# Altium schematic symbol library Amplifier_Operational.SchLib: 414 symbols (part 4 of 5)
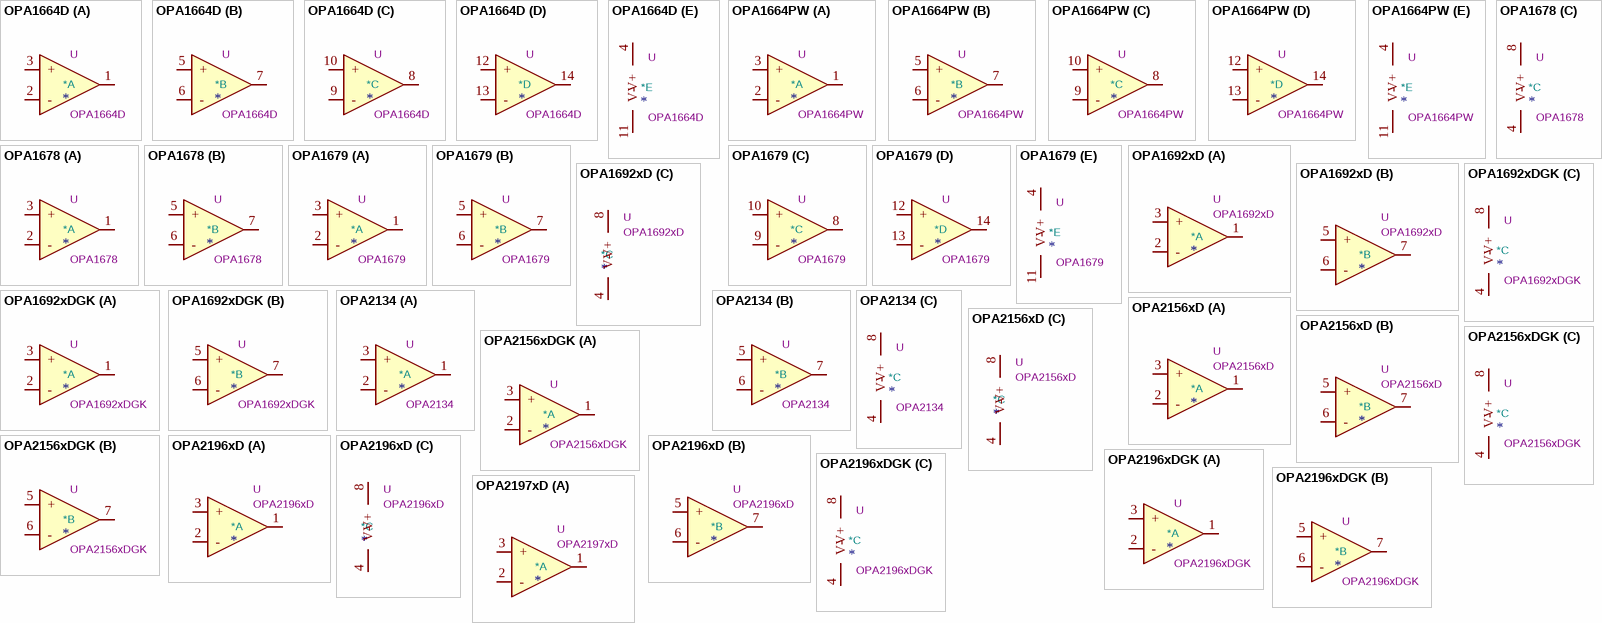
[diagram p26: symbols OPA1664D to OPA2197xD]

## OPA2156xD
designator *  value OPA2156xD  Reference: U
Dual 36V, Ultra Low Noise, Rail-to-Rail Input/Output, Low Offset Voltage, Operational Amplifier, SOIC-8; ki_keywords: dual opamp low-noise r2r; ki_fp_filters: SOIC*3.9x4.9mm*P1.27mm*; Footprint: Package_SO:SOIC-8_3.9x4.9mm_P1.27mm; Datasheet: https://www.ti.com/lit/ds/symlink/opa2156.pdf; Description_: Dual 36V, Ultra Low Noise, Rail-to-Rail Input/Output, Low Offset Voltage, Operational Amplifier, SOIC-8
part A pins: 1, 2 -, 3 +
part B pins: 5 +, 6 -, 7
part C pins: 4 V-, 8 V+

## OPA2156xDGK
designator *  value OPA2156xDGK  Reference: U
Dual 36V, Ultra Low Noise, Rail-to-Rail Input/Output, Low Offset Voltage, Operational Amplifier, VSSOP-8; ki_keywords: dual opamp low-noise r2r; ki_fp_filters: VSSOP*3x3mm*P0.65mm*; Footprint: Package_SO:VSSOP-8_3x3mm_P0.65mm; Datasheet: http://www.ti.com/lit/ds/symlink/opa2156.pdf; Description_: Dual 36V, Ultra Low Noise, Rail-to-Rail Input/Output, Low Offset Voltage, Operational Amplifier, VSSOP-8
part A pins: 1, 2 -, 3 +
part B pins: 5 +, 6 -, 7
part C pins: 4 V-, 8 V+

## OPA2196xD
designator *  value OPA2196xD  Reference: U
Dual, Low-Power, Low Offset Voltage, Rail-to-Rail Operational Amplifier, SOIC-8; ki_keywords: dual opamp low-power; ki_fp_filters: SOIC*3.9x4.9mm*P1.27mm*; Footprint: Package_SO:SOIC-8_3.9x4.9mm_P1.27mm; Datasheet: http://www.ti.com/lit/ds/symlink/opa4196.pdf; Description_: Dual, Low-Power, Low Offset Voltage, Rail-to-Rail Operational Amplifier, SOIC-8
part A pins: 1, 2 -, 3 +
part B pins: 5 +, 6 -, 7
part C pins: 4 V-, 8 V+

## OPA2196xDGK
designator *  value OPA2196xDGK  Reference: U
Dual, Low-Power, Low Offset Voltage, Rail-to-Rail Operational Amplifier, VSSOP-8; ki_keywords: dual opamp rtor; ki_fp_filters: VSSOP*3x3mm*P0.65mm*; Footprint: Package_SO:VSSOP-8_3x3mm_P0.65mm; Datasheet: http://www.ti.com/lit/ds/symlink/opa4196.pdf; Description_: Dual, Low-Power, Low Offset Voltage, Rail-to-Rail Operational Amplifier, VSSOP-8
part A pins: 1, 2 -, 3 +
part B pins: 5 +, 6 -, 7
part C pins: 4 V-, 8 V+

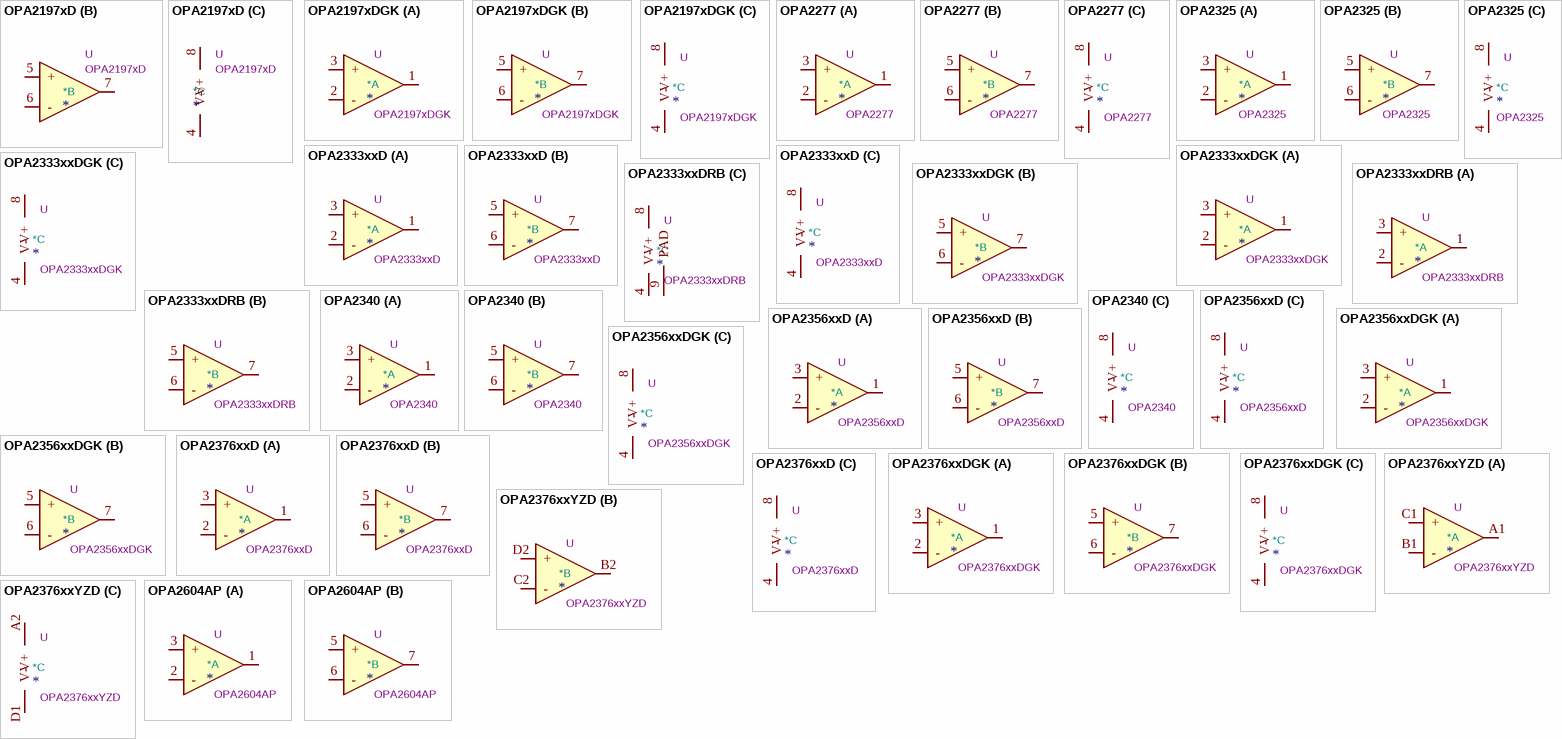
[diagram p16: symbols OPA2197xD to OPA2604AP]

## OPA2197xD
designator *  value OPA2197xD  Reference: U
Dual 36V, Precision, Rail-to-Rail Input/Output, Low Offset Voltage, Operational Amplifier, SOIC-8; ki_keywords: dual opamp rtor; ki_fp_filters: SOIC*3.9x4.9mm*P1.27mm*; Footprint: Package_SO:SOIC-8_3.9x4.9mm_P1.27mm; Datasheet: http://www.ti.com/lit/ds/symlink/opa2197.pdf; Description_: Dual 36V, Precision, Rail-to-Rail Input/Output, Low Offset Voltage, Operational Amplifier, SOIC-8
part A pins: 1, 2 -, 3 +
part B pins: 5 +, 6 -, 7
part C pins: 4 V-, 8 V+

## OPA2197xDGK
designator *  value OPA2197xDGK  Reference: U
Dual 36V, Precision, Rail-to-Rail Input/Output, Low Offset Voltage, Operational Amplifier, VSSOP-8; ki_keywords: dual opamp rtor; ki_fp_filters: VSSOP*3x3mm*P0.65mm*; Footprint: Package_SO:VSSOP-8_3x3mm_P0.65mm; Datasheet: http://www.ti.com/lit/ds/symlink/opa2197.pdf; Description_: Dual 36V, Precision, Rail-to-Rail Input/Output, Low Offset Voltage, Operational Amplifier, VSSOP-8
part A pins: 1, 2 -, 3 +
part B pins: 5 +, 6 -, 7
part C pins: 4 V-, 8 V+

## OPA2277
designator *  value OPA2277  Reference: U
Dual High Precision Operational Amplifiers, DIP-8/SOIC-8; ki_keywords: dual opamp; ki_fp_filters: SOIC*3.9x4.9mm*P1.27mm* DIP*W7.62mm* TO*99* OnSemi*Micro8* TSSOP*3x3mm*P0.65mm* TSSOP*4.4x3mm*P0.65mm* MSOP*3x3mm*P0.65mm* SSOP*3.9x4.9mm*P0.635mm* LFCSP*2x2mm*P0.5mm* *SIP* SOIC*5.3x6.2mm*P1.27mm*; Datasheet: https://www.ti.com/lit/ds/symlink/opa2277.pdf; Description_: Dual High Precision Operational Amplifiers, DIP-8/SOIC-8
part A pins: 1, 2 -, 3 +
part B pins: 5 +, 6 -, 7
part C pins: 4 V-, 8 V+

## OPA2325
designator *  value OPA2325  Reference: U
Precision, 10-MHz, Low-Noise, Low-Power, RRIO, CMOS Operational Amplifier, SOIC-8; ki_keywords: dual opamp; ki_fp_filters: SOIC*3.9x4.9mm*P1.27mm*; Footprint: Package_SO:SOIC-8_3.9x4.9mm_P1.27mm; Datasheet: http://www.ti.com/lit/ds/symlink/opa2325.pdf; Description_: Precision, 10-MHz, Low-Noise, Low-Power, RRIO, CMOS Operational Amplifier, SOIC-8
part A pins: 1, 2 -, 3 +
part B pins: 5 +, 6 -, 7
part C pins: 4 V-, 8 V+

## OPA2333xxD
designator *  value OPA2333xxD  Reference: U
Dual 1.8V, microPower, CMOS Operational Amplifiers, Zero-Drift Series, SOIC-8; ki_keywords: dual opamp; ki_fp_filters: SOIC*3.9x4.9mm*P1.27mm* DIP*W7.62mm* TO*99* OnSemi*Micro8* TSSOP*3x3mm*P0.65mm* TSSOP*4.4x3mm*P0.65mm* MSOP*3x3mm*P0.65mm* SSOP*3.9x4.9mm*P0.635mm* LFCSP*2x2mm*P0.5mm* *SIP* SOIC*5.3x6.2mm*P1.27mm*; Datasheet: http://www.ti.com/lit/ds/symlink/opa333.pdf; Description_: Dual 1.8V, microPower, CMOS Operational Amplifiers, Zero-Drift Series, SOIC-8
part A pins: 1, 2 -, 3 +
part B pins: 5 +, 6 -, 7
part C pins: 4 V-, 8 V+

## OPA2333xxDGK
designator *  value OPA2333xxDGK  Reference: U
Dual 1.8V, microPower, CMOS Operational Amplifiers, Zero-Drift Series, VSSOP-8; ki_keywords: dual opamp; ki_fp_filters: SOIC*3.9x4.9mm*P1.27mm* DIP*W7.62mm* TO*99* OnSemi*Micro8* TSSOP*3x3mm*P0.65mm* TSSOP*4.4x3mm*P0.65mm* MSOP*3x3mm*P0.65mm* SSOP*3.9x4.9mm*P0.635mm* LFCSP*2x2mm*P0.5mm* *SIP* SOIC*5.3x6.2mm*P1.27mm*; Datasheet: http://www.ti.com/lit/ds/symlink/opa333.pdf; Description_: Dual 1.8V, microPower, CMOS Operational Amplifiers, Zero-Drift Series, VSSOP-8
part A pins: 1, 2 -, 3 +
part B pins: 5 +, 6 -, 7
part C pins: 4 V-, 8 V+

## OPA2333xxDRB
designator *  value OPA2333xxDRB  Reference: U
Dual 1.8V, microPower, CMOS Operational Amplifiers, Zero-Drift Series, SON-8; ki_keywords: dual opamp; ki_fp_filters: Texas*PVSON*; Footprint: Package_SON:Texas_S-PVSON-N8; Datasheet: http://www.ti.com/lit/ds/symlink/opa333.pdf; Description_: Dual 1.8V, microPower, CMOS Operational Amplifiers, Zero-Drift Series, SON-8
part A pins: 1, 2 -, 3 +
part B pins: 5 +, 6 -, 7
part C pins: 4 V-, 8 V+, 9 PAD

## OPA2340
designator *  value OPA2340  Reference: U
Dual Single-Supply, Rail-to-Rail Operational Amplifiers, MicroAmplifier Series, DIP-8/SOIC-8/SSOP-8; ki_keywords: dual opamp; ki_fp_filters: SOIC*3.9x4.9mm*P1.27mm* DIP*W7.62mm* TO*99* OnSemi*Micro8* TSSOP*3x3mm*P0.65mm* TSSOP*4.4x3mm*P0.65mm* MSOP*3x3mm*P0.65mm* SSOP*3.9x4.9mm*P0.635mm* LFCSP*2x2mm*P0.5mm* *SIP* SOIC*5.3x6.2mm*P1.27mm*; Datasheet: http://www.ti.com/lit/ds/symlink/opa4340.pdf; Description_: Dual Single-Supply, Rail-to-Rail Operational Amplifiers, MicroAmplifier Series, DIP-8/SOIC-8/SSOP-8
part A pins: 1, 2 -, 3 +
part B pins: 5 +, 6 -, 7
part C pins: 4 V-, 8 V+

## OPA2356xxD
designator *  value OPA2356xxD  Reference: U
Dual High Speed CMOS Operational Amplifiers, SOIC-8; ki_keywords: dual opamp; ki_fp_filters: SOIC*3.9x4.9mm*P1.27mm* DIP*W7.62mm* TO*99* OnSemi*Micro8* TSSOP*3x3mm*P0.65mm* TSSOP*4.4x3mm*P0.65mm* MSOP*3x3mm*P0.65mm* SSOP*3.9x4.9mm*P0.635mm* LFCSP*2x2mm*P0.5mm* *SIP* SOIC*5.3x6.2mm*P1.27mm*; Datasheet: http://www.ti.com/lit/ds/symlink/opa2356.pdf; Description_: Dual High Speed CMOS Operational Amplifiers, SOIC-8
part A pins: 1, 2 -, 3 +
part B pins: 5 +, 6 -, 7
part C pins: 4 V-, 8 V+

## OPA2356xxDGK
designator *  value OPA2356xxDGK  Reference: U
Dual High Speed CMOS Operational Amplifiers, VSSOP-8; ki_keywords: dual opamp; ki_fp_filters: SOIC*3.9x4.9mm*P1.27mm* DIP*W7.62mm* TO*99* OnSemi*Micro8* TSSOP*3x3mm*P0.65mm* TSSOP*4.4x3mm*P0.65mm* MSOP*3x3mm*P0.65mm* SSOP*3.9x4.9mm*P0.635mm* LFCSP*2x2mm*P0.5mm* *SIP* SOIC*5.3x6.2mm*P1.27mm*; Datasheet: http://www.ti.com/lit/ds/symlink/opa2356.pdf; Description_: Dual High Speed CMOS Operational Amplifiers, VSSOP-8
part A pins: 1, 2 -, 3 +
part B pins: 5 +, 6 -, 7
part C pins: 4 V-, 8 V+

## OPA2376xxD
designator *  value OPA2376xxD  Reference: U
Dual Low-Noise, Low Quiescent Current, Precision Operational Amplifier e-trim Series, SOIC-8; ki_keywords: dual opamp; ki_fp_filters: SOIC*3.9x4.9mm*P1.27mm* DIP*W7.62mm* TO*99* OnSemi*Micro8* TSSOP*3x3mm*P0.65mm* TSSOP*4.4x3mm*P0.65mm* MSOP*3x3mm*P0.65mm* SSOP*3.9x4.9mm*P0.635mm* LFCSP*2x2mm*P0.5mm* *SIP* SOIC*5.3x6.2mm*P1.27mm*; Datasheet: http://www.ti.com/lit/ds/symlink/opa376.pdf; Description_: Dual Low-Noise, Low Quiescent Current, Precision Operational Amplifier e-trim Series, SOIC-8
part A pins: 1, 2 -, 3 +
part B pins: 5 +, 6 -, 7
part C pins: 4 V-, 8 V+

## OPA2376xxDGK
designator *  value OPA2376xxDGK  Reference: U
Dual Low-Noise, Low Quiescent Current, Precision Operational Amplifier e-trim Series, VSSOP-8; ki_keywords: dual opamp; ki_fp_filters: SOIC*3.9x4.9mm*P1.27mm* DIP*W7.62mm* TO*99* OnSemi*Micro8* TSSOP*3x3mm*P0.65mm* TSSOP*4.4x3mm*P0.65mm* MSOP*3x3mm*P0.65mm* SSOP*3.9x4.9mm*P0.635mm* LFCSP*2x2mm*P0.5mm* *SIP* SOIC*5.3x6.2mm*P1.27mm*; Datasheet: http://www.ti.com/lit/ds/symlink/opa376.pdf; Description_: Dual Low-Noise, Low Quiescent Current, Precision Operational Amplifier e-trim Series, VSSOP-8
part A pins: 1, 2 -, 3 +
part B pins: 5 +, 6 -, 7
part C pins: 4 V-, 8 V+

## OPA2376xxYZD
designator *  value OPA2376xxYZD  Reference: U
Dual Low-Noise, Low Quiescent Current, Precision Operational Amplifier e-trim Series, DSBGA-8; ki_keywords: dual opamp; ki_fp_filters: Texas*DSBGA*0.9x1.9mm*0.5mm*; Footprint: Package_BGA:Texas_DSBGA-8_0.9x1.9mm_Layout2x4_P0.5mm; Datasheet: http://www.ti.com/lit/ds/symlink/opa376.pdf; Description_: Dual Low-Noise, Low Quiescent Current, Precision Operational Amplifier e-trim Series, DSBGA-8
part A pins: A1, B1 -, C1 +
part B pins: B2, C2 -, D2 +
part C pins: A2 V+, D1 V-

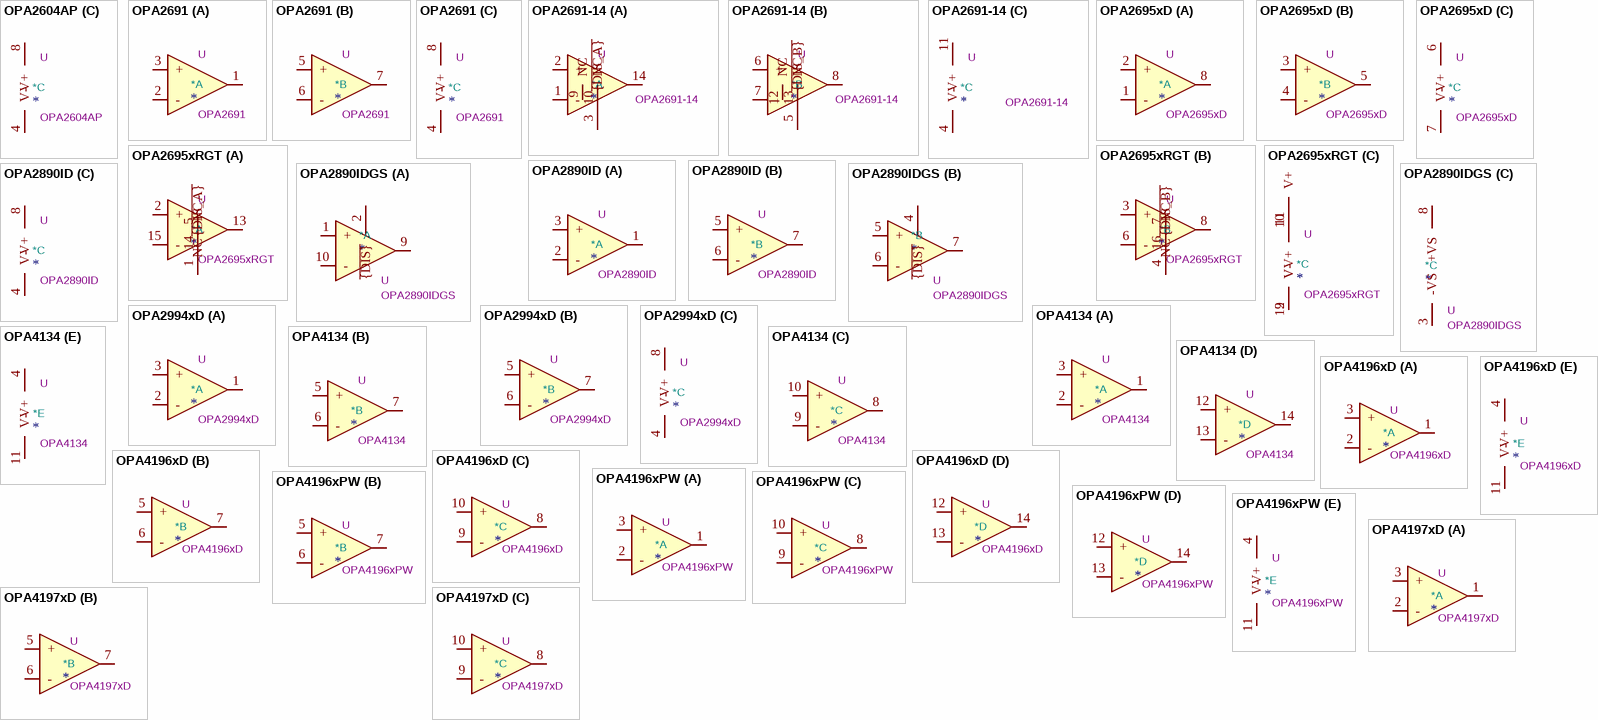
[diagram p17: symbols OPA2604AP to OPA4197xD]

## OPA2604AP
designator *  value OPA2604AP  Reference: U
Dual FET-Input, Low-Distortion Operational Amplifier, DIP-8; ki_keywords: dual opamp fet-input; ki_fp_filters: DIP*8*W7.62mm*; Footprint: Package_DIP:DIP-8_W7.62mm; Datasheet: https://pdf1.alldatasheetcn.com/datasheet-pdf/view/785955/TI1/OPA2604AP.html; Description_: Dual FET-Input, Low-Distortion Operational Amplifier, DIP-8
part A pins: 1, 2 -, 3 +
part B pins: 5 +, 6 -, 7
part C pins: 4 V-, 8 V+

## OPA2691
designator *  value OPA2691  Reference: U
Dual Wideband, Current-Feedback Operational Amplifier, SOIC-8; ki_keywords: dual current feedback opamp; ki_fp_filters: SOIC*3.9x4.9mm*P1.27mm* DIP*W7.62mm* TO*99* OnSemi*Micro8* TSSOP*3x3mm*P0.65mm* TSSOP*4.4x3mm*P0.65mm* MSOP*3x3mm*P0.65mm* SSOP*3.9x4.9mm*P0.635mm* LFCSP*2x2mm*P0.5mm* *SIP* SOIC*5.3x6.2mm*P1.27mm*; Datasheet: http://www.ti.com/lit/ds/sbos224d/sbos224d.pdf; Description_: Dual Wideband, Current-Feedback Operational Amplifier, SOIC-8
part A pins: 1, 2 -, 3 +
part B pins: 5 +, 6 -, 7
part C pins: 4 V-, 8 V+

## OPA2691-14
designator *  value OPA2691-14  Reference: U
Dual Wideband, Current-Feedback Operational Amplifier With Disable, SOIC-14; ki_keywords: dual current feedback opamp; ki_fp_filters: SOIC*3.9x8.7mm*P1.27mm*; Footprint: Package_SO:SOIC-14_3.9x8.7mm_P1.27mm; Datasheet: http://www.ti.com/lit/ds/sbos224d/sbos224d.pdf; Description_: Dual Wideband, Current-Feedback Operational Amplifier With Disable, SOIC-14
part A pins: 1 -, 2 +, 3 ~{{DIS_A}}, 9 NC, 10 NC, 14
part B pins: 5 ~{{DIS_B}}, 6 +, 7 -, 8, 12 NC, 13 NC
part C pins: 4 V-, 11 V+

## OPA2695xD
designator *  value OPA2695xD  Reference: U
Dual, Ultra-Wideband, Current-Feedback Operational Amplifier with Disable, SOIC-8; ki_keywords: dual opamp; ki_fp_filters: SOIC*3.9x4.9mm*P1.27mm*; Footprint: Package_SO:SOIC-8_3.9x4.9mm_P1.27mm; Datasheet: http://www.ti.com/lit/ds/sbos354a/sbos354a.pdf; Description_: Dual, Ultra-Wideband, Current-Feedback Operational Amplifier with Disable, SOIC-8
part A pins: 1 -, 2 +, 8
part B pins: 3 +, 4 -, 5
part C pins: 6 V+, 7 V-

## OPA2695xRGT
designator *  value OPA2695xRGT  Reference: U
Dual, Ultra-Wideband, Current-Feedback Operational Amplifier with Disable, QFN-16; ki_keywords: dual opamp; ki_fp_filters: VQFN*1EP*3x3mm*P0.5mm*; Footprint: Package_DFN_QFN:VQFN-16-1EP_3x3mm_P0.5mm_EP1.45x1.45mm_ThermalVias; Datasheet: http://www.ti.com/lit/ds/sbos354a/sbos354a.pdf; Description_: Dual, Ultra-Wideband, Current-Feedback Operational Amplifier with Disable, QFN-16
part A pins: 1 ~{{DIS_A}}, 2 +, 5 NC, 13, 14 NC, 15 -
part B pins: 3 +, 4 ~{{DIS_B}}, 6 -, 7 NC, 8, 16 NC
part C pins: 9 V-, 10 V+, 11 V+, 12 V-

## OPA2890ID
designator *  value OPA2890ID  Reference: U
Low-Power, Wideband, Voltage-Feedback Operational Amplifier, SO-8; ki_keywords: dual opamp; ki_fp_filters: *SO*3.9x4.9mm*P1.27mm*; Footprint: Package_SO:SO-8_3.9x4.9mm_P1.27mm; Datasheet: https://www.ti.com/lit/ds/symlink/opa2890.pdf; Description_: Low-Power, Wideband, Voltage-Feedback Operational Amplifier, SO-8
part A pins: 1, 2 -, 3 +
part B pins: 5 +, 6 -, 7
part C pins: 4 V-, 8 V+

## OPA2890IDGS
designator *  value OPA2890IDGS  Reference: U
Low-Power, Wideband, Voltage-Feedback Operational Amplifier with Disable, VSSOP-10; ki_keywords: dual opamp; ki_fp_filters: *VSSOP*3x3mm*P0.5mm*; Footprint: Package_SO:VSSOP-10_3x3mm_P0.5mm; Datasheet: https://www.ti.com/lit/ds/symlink/opa2890.pdf; Description_: Low-Power, Wideband, Voltage-Feedback Operational Amplifier with Disable, VSSOP-10
part A pins: 1 +, 2 ~{{DIS}}, 9, 10 -
part B pins: 4 ~{{DIS}}, 5 +, 6 -, 7
part C pins: 3 -VS, 8 +VS

## OPA2994xD
designator *  value OPA2994xD  Reference: U
Dual Opamp, Rail-to-Rail Input/Output, Unlimited Capacitive Load Drive, 125mA Output Current, 2-32V, 350uV offset, 24MHz GBW, SOIC-8; ki_keywords: high-output-current rrio; ki_fp_filters: SOIC*3.9x4.9mm*P1.27mm*; Footprint: Package_SO:SOIC-8_3.9x4.9mm_P1.27mm; Datasheet: https://www.ti.com/lit/ds/symlink/opa2994.pdf; Description_: Dual Opamp, Rail-to-Rail Input/Output, Unlimited Capacitive Load Drive, 125mA Output Current, 2-32V, 350uV offset, 24MHz GBW, SOIC-8
part A pins: 1, 2 -, 3 +
part B pins: 5 +, 6 -, 7
part C pins: 4 V-, 8 V+

## OPA4134
designator *  value OPA4134  Reference: U
Quad SoundPlus High Performance Audio Operational Amplifiers, SOIC-14; ki_keywords: quad opamp; ki_fp_filters: SOIC*3.9x8.7mm*P1.27mm* DIP*W7.62mm* TSSOP*4.4x5mm*P0.65mm* SSOP*5.3x6.2mm*P0.65mm* MSOP*3x3mm*P0.5mm*; Datasheet: http://www.ti.com/lit/ds/symlink/opa134.pdf; Description_: Quad SoundPlus High Performance Audio Operational Amplifiers, SOIC-14
part A pins: 1, 2 -, 3 +
part B pins: 5 +, 6 -, 7
part C pins: 8, 9 -, 10 +
part D pins: 12 +, 13 -, 14
part E pins: 4 V+, 11 V-

## OPA4196xD
designator *  value OPA4196xD  Reference: U
Quad, Low-Power, Low Offset Voltage, Rail-to-Rail Operational Amplifier, SOIC-14; ki_keywords: quad opamp rtor; ki_fp_filters: SOIC*3.9x8.7mm*P1.27mm*; Footprint: Package_SO:SOIC-14_3.9x8.7mm_P1.27mm; Datasheet: http://www.ti.com/lit/ds/symlink/opa4196.pdf; Description_: Quad, Low-Power, Low Offset Voltage, Rail-to-Rail Operational Amplifier, SOIC-14
part A pins: 1, 2 -, 3 +
part B pins: 5 +, 6 -, 7
part C pins: 8, 9 -, 10 +
part D pins: 12 +, 13 -, 14
part E pins: 4 V+, 11 V-

## OPA4196xPW
designator *  value OPA4196xPW  Reference: U
Quad, Low-Power, Low Offset Voltage, Rail-to-Rail Operational Amplifier, TSSOP-14; ki_keywords: quad opamp rtor; ki_fp_filters: TSSOP*4.4x5mm*P0.65mm*; Footprint: Package_SO:TSSOP-14_4.4x5mm_P0.65mm; Datasheet: http://www.ti.com/lit/ds/symlink/opa4196.pdf; Description_: Quad, Low-Power, Low Offset Voltage, Rail-to-Rail Operational Amplifier, TSSOP-14
part A pins: 1, 2 -, 3 +
part B pins: 5 +, 6 -, 7
part C pins: 8, 9 -, 10 +
part D pins: 12 +, 13 -, 14
part E pins: 4 V+, 11 V-

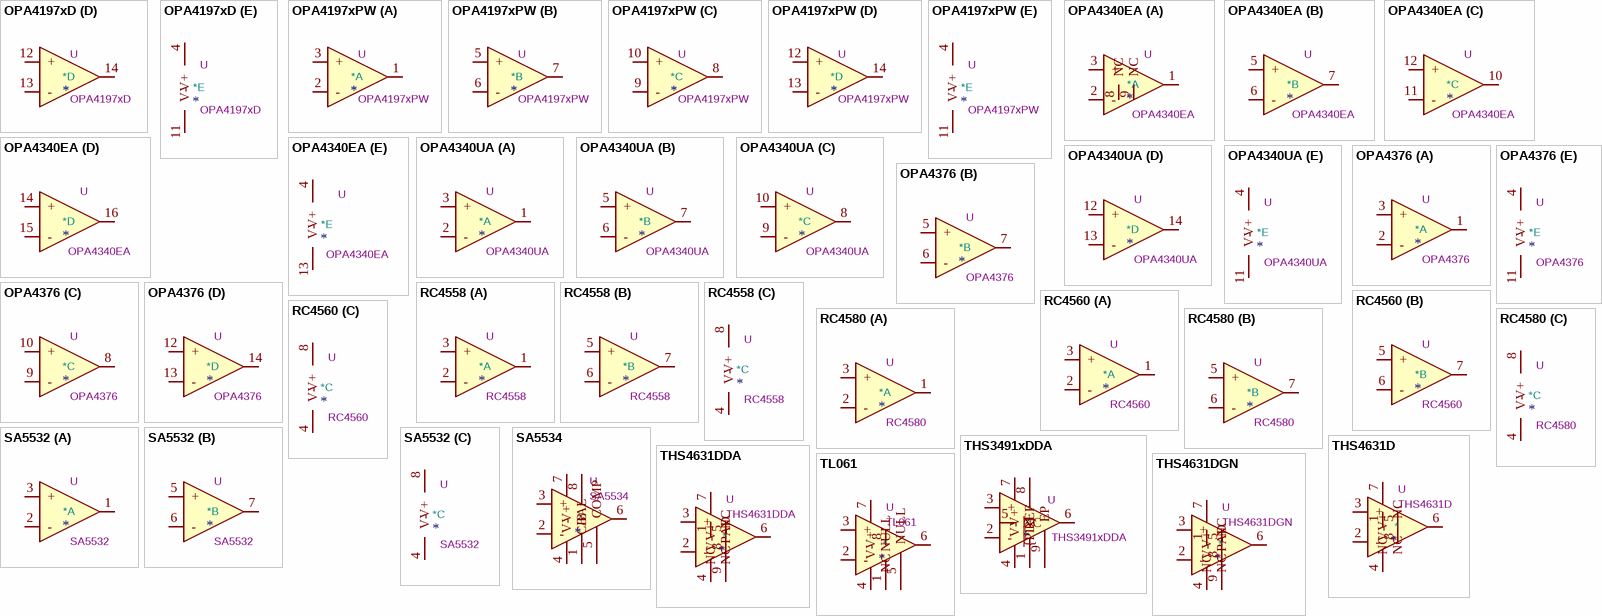
[diagram p18: symbols OPA4197xD to TL061]

## OPA4197xD
designator *  value OPA4197xD  Reference: U
Quad 36V, Precision, Rail-to-Rail Input/Output, Low Offset Voltage, Operational Amplifier, SOIC-14; ki_keywords: quad opamp rtor; ki_fp_filters: SOIC*3.9x8.7mm*P1.27mm*; Footprint: Package_SO:SOIC-14_3.9x8.7mm_P1.27mm; Datasheet: http://www.ti.com/lit/ds/symlink/opa4197.pdf; Description_: Quad 36V, Precision, Rail-to-Rail Input/Output, Low Offset Voltage, Operational Amplifier, SOIC-14
part A pins: 1, 2 -, 3 +
part B pins: 5 +, 6 -, 7
part C pins: 8, 9 -, 10 +
part D pins: 12 +, 13 -, 14
part E pins: 4 V+, 11 V-

## OPA4197xPW
designator *  value OPA4197xPW  Reference: U
Quad 36V, Precision, Rail-to-Rail Input/Output, Low Offset Voltage, Operational Amplifier, TSSOP-14; ki_keywords: quad opamp rtor; ki_fp_filters: TSSOP*4.4x5mm*P0.65mm*; Footprint: Package_SO:TSSOP-14_4.4x5mm_P0.65mm; Datasheet: http://www.ti.com/lit/ds/symlink/opa4197.pdf; Description_: Quad 36V, Precision, Rail-to-Rail Input/Output, Low Offset Voltage, Operational Amplifier, TSSOP-14
part A pins: 1, 2 -, 3 +
part B pins: 5 +, 6 -, 7
part C pins: 8, 9 -, 10 +
part D pins: 12 +, 13 -, 14
part E pins: 4 V+, 11 V-

## OPA4340EA
designator *  value OPA4340EA  Reference: U
Quad Single-Supply, Rail-to-Rail Operational Amplifier, MicroAmplifier Series, SSOP-16; ki_keywords: quad opamp; ki_fp_filters: SSOP*3.9x4.9mm*P0.635mm* SOIC*3.9x9.9mm*P1.27mm* QSOP*3.9x4.9mm*P0.635mm*; Datasheet: http://www.ti.com/lit/ds/symlink/opa340.pdf; Description_: Quad Single-Supply, Rail-to-Rail Operational Amplifier, MicroAmplifier Series, SSOP-16
part A pins: 1, 2 -, 3 +, 8 NC, 9 NC
part B pins: 5 +, 6 -, 7
part C pins: 10, 11 -, 12 +
part D pins: 14 +, 15 -, 16
part E pins: 4 V+, 13 V-

## OPA4340UA
designator *  value OPA4340UA  Reference: U
Quad Single-Supply, Rail-to-Rail Operational Amplifier, MicroAmplifier Series, SOIC-14; ki_keywords: quad opamp; ki_fp_filters: SOIC*3.9x8.7mm*P1.27mm* DIP*W7.62mm* TSSOP*4.4x5mm*P0.65mm* SSOP*5.3x6.2mm*P0.65mm* MSOP*3x3mm*P0.5mm*; Datasheet: http://www.ti.com/lit/ds/symlink/opa340.pdf; Description_: Quad Single-Supply, Rail-to-Rail Operational Amplifier, MicroAmplifier Series, SOIC-14
part A pins: 1, 2 -, 3 +
part B pins: 5 +, 6 -, 7
part C pins: 8, 9 -, 10 +
part D pins: 12 +, 13 -, 14
part E pins: 4 V+, 11 V-

## OPA4376
designator *  value OPA4376  Reference: U
Quad Low-Noise, Low Quiescent Current, Precision Operational Amplifier e-trim Series, SC-70-5; ki_keywords: quad opamp; ki_fp_filters: SOIC*3.9x8.7mm*P1.27mm* DIP*W7.62mm* TSSOP*4.4x5mm*P0.65mm* SSOP*5.3x6.2mm*P0.65mm* MSOP*3x3mm*P0.5mm*; Datasheet: http://www.ti.com/lit/ds/symlink/opa376.pdf; Description_: Quad Low-Noise, Low Quiescent Current, Precision Operational Amplifier e-trim Series, SC-70-5
part A pins: 1, 2 -, 3 +
part B pins: 5 +, 6 -, 7
part C pins: 8, 9 -, 10 +
part D pins: 12 +, 13 -, 14
part E pins: 4 V+, 11 V-

## RC4558
designator *  value RC4558  Reference: U
Dual General Purpose, Operational Amplifier, DIP-8/SOIC-8/SSOP-8; ki_keywords: dual opamp; ki_fp_filters: SOIC*3.9x4.9mm*P1.27mm* DIP*W7.62mm* TO*99* OnSemi*Micro8* TSSOP*3x3mm*P0.65mm* TSSOP*4.4x3mm*P0.65mm* MSOP*3x3mm*P0.65mm* SSOP*3.9x4.9mm*P0.635mm* LFCSP*2x2mm*P0.5mm* *SIP* SOIC*5.3x6.2mm*P1.27mm*; Datasheet: http://www.ti.com/lit/ds/symlink/rc4558.pdf; Description_: Dual General Purpose, Operational Amplifier, DIP-8/SOIC-8/SSOP-8
part A pins: 1, 2 -, 3 +
part B pins: 5 +, 6 -, 7
part C pins: 4 V-, 8 V+

## RC4560
designator *  value RC4560  Reference: U
Dual Audio Operational Amplifier, DIP-8/SOIC-8/SSOP-8; ki_keywords: dual opamp; ki_fp_filters: SOIC*3.9x4.9mm*P1.27mm* DIP*W7.62mm* TO*99* OnSemi*Micro8* TSSOP*3x3mm*P0.65mm* TSSOP*4.4x3mm*P0.65mm* MSOP*3x3mm*P0.65mm* SSOP*3.9x4.9mm*P0.635mm* LFCSP*2x2mm*P0.5mm* *SIP* SOIC*5.3x6.2mm*P1.27mm*; Datasheet: http://www.ti.com/lit/ds/symlink/rc4560.pdf; Description_: Dual Audio Operational Amplifier, DIP-8/SOIC-8/SSOP-8
part A pins: 1, 2 -, 3 +
part B pins: 5 +, 6 -, 7
part C pins: 4 V-, 8 V+

## RC4580
designator *  value RC4580  Reference: U
Dual Audio Operational Amplifier, SOIC-8/SSOP-8; ki_keywords: dual opamp; ki_fp_filters: SOIC*3.9x4.9mm*P1.27mm* DIP*W7.62mm* TO*99* OnSemi*Micro8* TSSOP*3x3mm*P0.65mm* TSSOP*4.4x3mm*P0.65mm* MSOP*3x3mm*P0.65mm* SSOP*3.9x4.9mm*P0.635mm* LFCSP*2x2mm*P0.5mm* *SIP* SOIC*5.3x6.2mm*P1.27mm*; Datasheet: http://www.ti.com/lit/ds/symlink/rc4580.pdf; Description_: Dual Audio Operational Amplifier, SOIC-8/SSOP-8
part A pins: 1, 2 -, 3 +
part B pins: 5 +, 6 -, 7
part C pins: 4 V-, 8 V+

## SA5532
designator *  value SA5532  Reference: U
Dual Low-Noise Operational Amplifiers, DIP-8/SOIC-8; ki_keywords: dual opamp; ki_fp_filters: SOIC*3.9x4.9mm*P1.27mm* DIP*W7.62mm* TO*99* OnSemi*Micro8* TSSOP*3x3mm*P0.65mm* TSSOP*4.4x3mm*P0.65mm* MSOP*3x3mm*P0.65mm* SSOP*3.9x4.9mm*P0.635mm* LFCSP*2x2mm*P0.5mm* *SIP* SOIC*5.3x6.2mm*P1.27mm*; Datasheet: http://www.ti.com/lit/ds/symlink/ne5532.pdf; Description_: Dual Low-Noise Operational Amplifiers, DIP-8/SOIC-8
part A pins: 1, 2 -, 3 +
part B pins: 5 +, 6 -, 7
part C pins: 4 V-, 8 V+

## SA5534
designator *  value SA5534  Reference: U
Single Low-Noise Operational Amplifiers, DIP-8/SOIC-8; ki_keywords: single opamp; ki_fp_filters: DIP*W7.62mm* SOIC*3.9x4.9mm*P1.27mm* TO?5*; Datasheet: http://www.ti.com/lit/ds/symlink/ne5534.pdf; Description_: Single Low-Noise Operational Amplifiers, DIP-8/SOIC-8
pins: 1 BAL, 2 -, 3 +, 4 V-, 5 COMP, 6, 7 V+, 8 C/B

## THS3491xDDA
designator *  value THS3491xDDA  Reference: U
900-MHz, 500-mA High-Power Output Current Feedback Operational Amplifier, SOIC-8; ki_keywords: opamp single current feedback wideband; ki_fp_filters: Texas*R*PDSO*G8*EP*; Footprint: Package_SO:Texas_R-PDSO-G8_EP2.95x4.9mm_Mask2.4x3.1mm; Datasheet: http://www.ti.com/lit/ds/symlink/ths3491.pdf; Description_: 900-MHz, 500-mA High-Power Output Current Feedback Operational Amplifier, SOIC-8
pins: 1 REF, 2 -, 3 +, 4 V-, 5 NC, 6, 7 V+, 8 ~{{PD}}, 9 EP

## THS4631D
designator *  value THS4631D  Reference: U
Single High-voltage, High Slew Rate, Wideband, FET-input Operational Amplifier, SOIC-8; ki_keywords: single opamp; ki_fp_filters: SOIC*3.9x4.9mm*P1.27mm*; Footprint: Package_SO:SOIC-8_3.9x4.9mm_P1.27mm; Datasheet: www.ti.com/lit/ds/symlink/ths4631.pdf; Description_: Single High-voltage, High Slew Rate, Wideband, FET-input Operational Amplifier, SOIC-8
pins: 1 NC, 2 -, 3 +, 4 V-, 5 NC, 6, 7 V+, 8 NC

## THS4631DDA
designator *  value THS4631DDA  Reference: U
Single High-voltage, High Slew Rate, Wideband, FET-input Operational Amplifier, SOIC-8; ki_keywords: single opamp; ki_fp_filters: SOIC*1EP*3.9x4.9mm*P1.27mm* MSOP*1EP*3x3mm*P0.65mm*; Datasheet: www.ti.com/lit/ds/symlink/ths4631.pdf; Description_: Single High-voltage, High Slew Rate, Wideband, FET-input Operational Amplifier, SOIC-8
pins: 1 NC, 2 -, 3 +, 4 V-, 5 NC, 6, 7 V+, 8 NC, 9 PAD

## THS4631DGN
designator *  value THS4631DGN  Reference: U
Single High-voltage, High Slew Rate, Wideband, FET-input Operational Amplifier, MSOP-8; ki_keywords: single opamp; ki_fp_filters: SOIC*1EP*3.9x4.9mm*P1.27mm* MSOP*1EP*3x3mm*P0.65mm*; Datasheet: www.ti.com/lit/ds/symlink/ths4631.pdf; Description_: Single High-voltage, High Slew Rate, Wideband, FET-input Operational Amplifier, MSOP-8
pins: 1 NC, 2 -, 3 +, 4 V-, 5 NC, 6, 7 V+, 8 NC, 9 PAD

## TL061
designator *  value TL061  Reference: U
Single Low-Power JFET-Input Operational Amplifiers, DIP-8/SOIC-8; ki_keywords: single opamp; ki_fp_filters: SOIC*3.9x4.9mm*P1.27mm* DIP*W7.62mm* TSSOP*3x3mm*P0.65mm*; Datasheet: http://www.ti.com/lit/ds/symlink/tl061.pdf; Description_: Single Low-Power JFET-Input Operational Amplifiers, DIP-8/SOIC-8
pins: 1 NULL, 2 -, 3 +, 4 V-, 5 NULL, 6, 7 V+, 8 NC

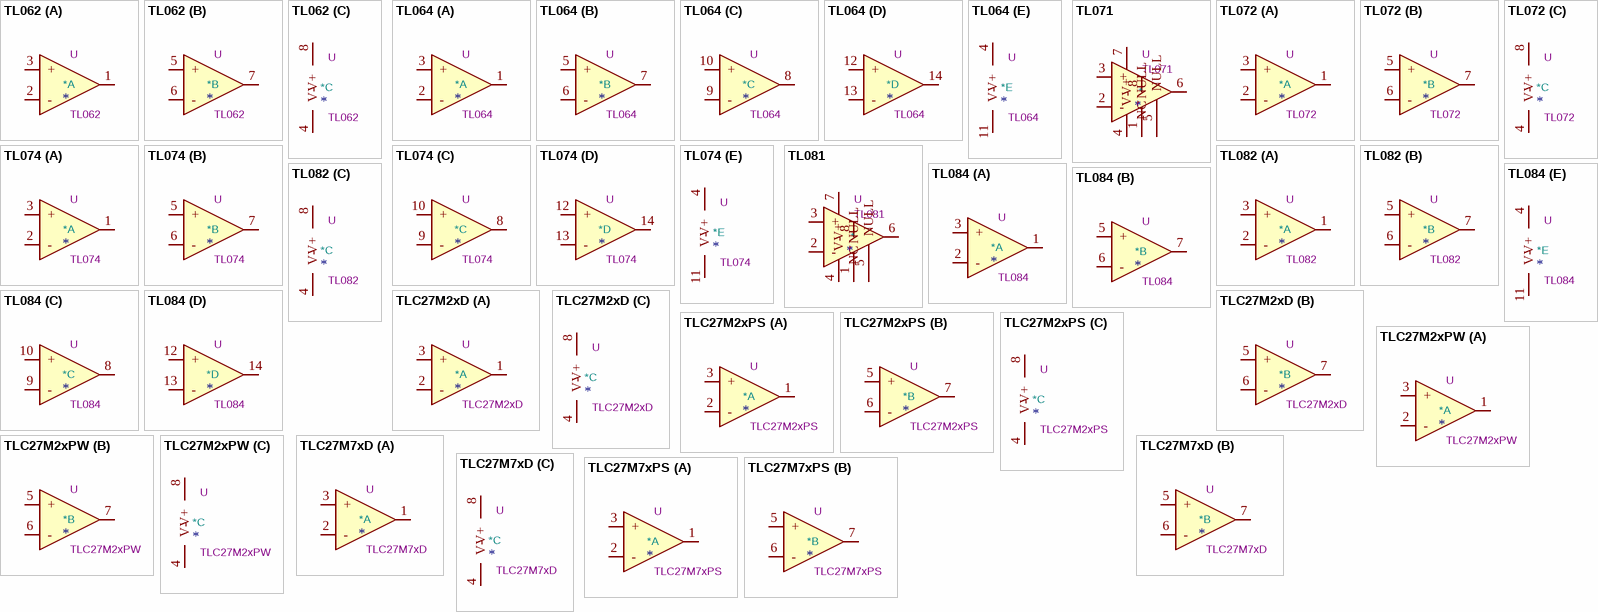
[diagram p19: symbols TL062 to TLC27M7xPS]

## TL062
designator *  value TL062  Reference: U
Dual Low-Power JFET-Input Operational Amplifiers, DIP-8/SOIC-8/SSOP-8; ki_keywords: dual opamp; ki_fp_filters: SOIC*3.9x4.9mm*P1.27mm* DIP*W7.62mm* TO*99* OnSemi*Micro8* TSSOP*3x3mm*P0.65mm* TSSOP*4.4x3mm*P0.65mm* MSOP*3x3mm*P0.65mm* SSOP*3.9x4.9mm*P0.635mm* LFCSP*2x2mm*P0.5mm* *SIP* SOIC*5.3x6.2mm*P1.27mm*; Datasheet: http://www.ti.com/lit/ds/symlink/tl061.pdf; Description_: Dual Low-Power JFET-Input Operational Amplifiers, DIP-8/SOIC-8/SSOP-8
part A pins: 1, 2 -, 3 +
part B pins: 5 +, 6 -, 7
part C pins: 4 V-, 8 V+

## TL064
designator *  value TL064  Reference: U
Quad Low-Power JFET-Input Operational Amplifiers, DIP-14/SOIC-14/SSOP-14; ki_keywords: quad opamp; ki_fp_filters: SOIC*3.9x8.7mm*P1.27mm* DIP*W7.62mm* TSSOP*4.4x5mm*P0.65mm* SSOP*5.3x6.2mm*P0.65mm* MSOP*3x3mm*P0.5mm*; Datasheet: http://www.ti.com/lit/ds/symlink/tl061.pdf; Description_: Quad Low-Power JFET-Input Operational Amplifiers, DIP-14/SOIC-14/SSOP-14
part A pins: 1, 2 -, 3 +
part B pins: 5 +, 6 -, 7
part C pins: 8, 9 -, 10 +
part D pins: 12 +, 13 -, 14
part E pins: 4 V+, 11 V-

## TL071
designator *  value TL071  Reference: U
Single Low-Noise JFET-Input Operational Amplifiers, DIP-8/SOIC-8; ki_keywords: singel opamp; ki_fp_filters: SOIC*3.9x4.9mm*P1.27mm* DIP*W7.62mm* TSSOP*3x3mm*P0.65mm*; Datasheet: http://www.ti.com/lit/ds/symlink/tl071.pdf; Description_: Single Low-Noise JFET-Input Operational Amplifiers, DIP-8/SOIC-8
pins: 1 NULL, 2 -, 3 +, 4 V-, 5 NULL, 6, 7 V+, 8 NC

## TL072
designator *  value TL072  Reference: U
Dual Low-Noise JFET-Input Operational Amplifiers, DIP-8/SOIC-8; ki_keywords: dual opamp; ki_fp_filters: SOIC*3.9x4.9mm*P1.27mm* DIP*W7.62mm* TO*99* OnSemi*Micro8* TSSOP*3x3mm*P0.65mm* TSSOP*4.4x3mm*P0.65mm* MSOP*3x3mm*P0.65mm* SSOP*3.9x4.9mm*P0.635mm* LFCSP*2x2mm*P0.5mm* *SIP* SOIC*5.3x6.2mm*P1.27mm*; Datasheet: http://www.ti.com/lit/ds/symlink/tl071.pdf; Description_: Dual Low-Noise JFET-Input Operational Amplifiers, DIP-8/SOIC-8
part A pins: 1, 2 -, 3 +
part B pins: 5 +, 6 -, 7
part C pins: 4 V-, 8 V+

## TL074
designator *  value TL074  Reference: U
Quad Low-Noise JFET-Input Operational Amplifiers, DIP-14/SOIC-14; ki_keywords: quad opamp; ki_fp_filters: SOIC*3.9x8.7mm*P1.27mm* DIP*W7.62mm* TSSOP*4.4x5mm*P0.65mm* SSOP*5.3x6.2mm*P0.65mm* MSOP*3x3mm*P0.5mm*; Datasheet: http://www.ti.com/lit/ds/symlink/tl071.pdf; Description_: Quad Low-Noise JFET-Input Operational Amplifiers, DIP-14/SOIC-14
part A pins: 1, 2 -, 3 +
part B pins: 5 +, 6 -, 7
part C pins: 8, 9 -, 10 +
part D pins: 12 +, 13 -, 14
part E pins: 4 V+, 11 V-

## TL081
designator *  value TL081  Reference: U
Single JFET-Input Operational Amplifiers, DIP-8/SOIC-8; ki_keywords: single opamp; ki_fp_filters: SOIC*3.9x4.9mm*P1.27mm* DIP*W7.62mm* TSSOP*3x3mm*P0.65mm*; Datasheet: http://www.ti.com/lit/ds/symlink/tl081.pdf; Description_: Single JFET-Input Operational Amplifiers, DIP-8/SOIC-8
pins: 1 NULL, 2 -, 3 +, 4 V-, 5 NULL, 6, 7 V+, 8 NC

## TL082
designator *  value TL082  Reference: U
Dual JFET-Input Operational Amplifiers, DIP-8/SOIC-8/SSOP-8; ki_keywords: dual opamp; ki_fp_filters: SOIC*3.9x4.9mm*P1.27mm* DIP*W7.62mm* TO*99* OnSemi*Micro8* TSSOP*3x3mm*P0.65mm* TSSOP*4.4x3mm*P0.65mm* MSOP*3x3mm*P0.65mm* SSOP*3.9x4.9mm*P0.635mm* LFCSP*2x2mm*P0.5mm* *SIP* SOIC*5.3x6.2mm*P1.27mm*; Datasheet: http://www.ti.com/lit/ds/symlink/tl081.pdf; Description_: Dual JFET-Input Operational Amplifiers, DIP-8/SOIC-8/SSOP-8
part A pins: 1, 2 -, 3 +
part B pins: 5 +, 6 -, 7
part C pins: 4 V-, 8 V+

## TL084
designator *  value TL084  Reference: U
Quad JFET-Input Operational Amplifiers, DIP-14/SOIC-14/SSOP-14; ki_keywords: quad opamp; ki_fp_filters: SOIC*3.9x8.7mm*P1.27mm* DIP*W7.62mm* TSSOP*4.4x5mm*P0.65mm* SSOP*5.3x6.2mm*P0.65mm* MSOP*3x3mm*P0.5mm*; Datasheet: http://www.ti.com/lit/ds/symlink/tl081.pdf; Description_: Quad JFET-Input Operational Amplifiers, DIP-14/SOIC-14/SSOP-14
part A pins: 1, 2 -, 3 +
part B pins: 5 +, 6 -, 7
part C pins: 8, 9 -, 10 +
part D pins: 12 +, 13 -, 14
part E pins: 4 V+, 11 V-

## TLC27M2xD
designator *  value TLC27M2xD  Reference: U
LinCMOS Precision Dual Operational Amplifiers, VIO_max = 10mV (at 25°C), VDD = 3..16V (C suffix) / VDD = 4..16V (I / M suffix), 525kHz unity-gain bandwidth (VDD = 5V, TA = 25°C), SOIC-8 (150 mil); ki_keywords: opamp operational-amplifier; ki_fp_filters: *SOIC*3.9x4.9mm*P1.27mm*; Footprint: Package_SO:SOIC-8_3.9x4.9mm_P1.27mm; Datasheet: https://www.ti.com/lit/ds/symlink/tlc27m2.pdf; Description_: LinCMOS Precision Dual Operational Amplifiers, VIO_max = 10mV (at 25°C), VDD = 3..16V (C suffix) / VDD = 4..16V (I / M suffix), 525kHz unity-gain bandwidth (VDD = 5V, TA = 25°C), SOIC-8 (150 mil)
part A pins: 1, 2 -, 3 +
part B pins: 5 +, 6 -, 7
part C pins: 4 V-, 8 V+

## TLC27M2xPS
designator *  value TLC27M2xPS  Reference: U
LinCMOS Precision Dual Operational Amplifiers, VIO_max = 10mV (at 25°C), VDD = 3..16V (C suffix) / VDD = 4..16V (I / M suffix), 525kHz unity-gain bandwidth (VDD = 5V, TA = 25°C), SOIC-8 (208 mil); ki_keywords: opamp operational-amplifier; ki_fp_filters: *SOIC*5.3x6.2mm*P1.27mm*; Footprint: Package_SO:SOIC-8_5.3x6.2mm_P1.27mm; Datasheet: https://www.ti.com/lit/ds/symlink/tlc27m2.pdf; Description_: LinCMOS Precision Dual Operational Amplifiers, VIO_max = 10mV (at 25°C), VDD = 3..16V (C suffix) / VDD = 4..16V (I / M suffix), 525kHz unity-gain bandwidth (VDD = 5V, TA = 25°C), SOIC-8 (208 mil)
part A pins: 1, 2 -, 3 +
part B pins: 5 +, 6 -, 7
part C pins: 4 V-, 8 V+

## TLC27M2xPW
designator *  value TLC27M2xPW  Reference: U
LinCMOS Precision Dual Operational Amplifiers, VIO_max = 10mV (at 25°C), VDD = 3..16V (C suffix) / VDD = 4..16V (I / M suffix), 525kHz unity-gain bandwidth (VDD = 5V, TA = 25°C), TSSOP-8; ki_keywords: opamp operational-amplifier; ki_fp_filters: TSSOP*4.4x3mm*P0.65mm*; Footprint: Package_SO:TSSOP-8_4.4x3mm_P0.65mm; Datasheet: https://www.ti.com/lit/ds/symlink/tlc27m2.pdf; Description_: LinCMOS Precision Dual Operational Amplifiers, VIO_max = 10mV (at 25°C), VDD = 3..16V (C suffix) / VDD = 4..16V (I / M suffix), 525kHz unity-gain bandwidth (VDD = 5V, TA = 25°C), TSSOP-8
part A pins: 1, 2 -, 3 +
part B pins: 5 +, 6 -, 7
part C pins: 4 V-, 8 V+

## TLC27M7xD
designator *  value TLC27M7xD  Reference: U
LinCMOS Precision Dual Operational Amplifiers, VIO_max = 500μV (at 25°C), VDD = 3..16V (C suffix) / VDD = 4..16V (I / M suffix), 525kHz unity-gain bandwidth (VDD = 5V, TA = 25°C), SOIC-8 (150 mil); ki_keywords: opamp operational-amplifier; ki_fp_filters: *SOIC*3.9x4.9mm*P1.27mm*; Footprint: Package_SO:SOIC-8_3.9x4.9mm_P1.27mm; Datasheet: https://www.ti.com/lit/ds/symlink/tlc27m2.pdf; Description_: LinCMOS Precision Dual Operational Amplifiers, VIO_max = 500μV (at 25°C), VDD = 3..16V (C suffix) / VDD = 4..16V (I / M suffix), 525kHz unity-gain bandwidth (VDD = 5V, TA = 25°C), SOIC-8 (150 mil)
part A pins: 1, 2 -, 3 +
part B pins: 5 +, 6 -, 7
part C pins: 4 V-, 8 V+

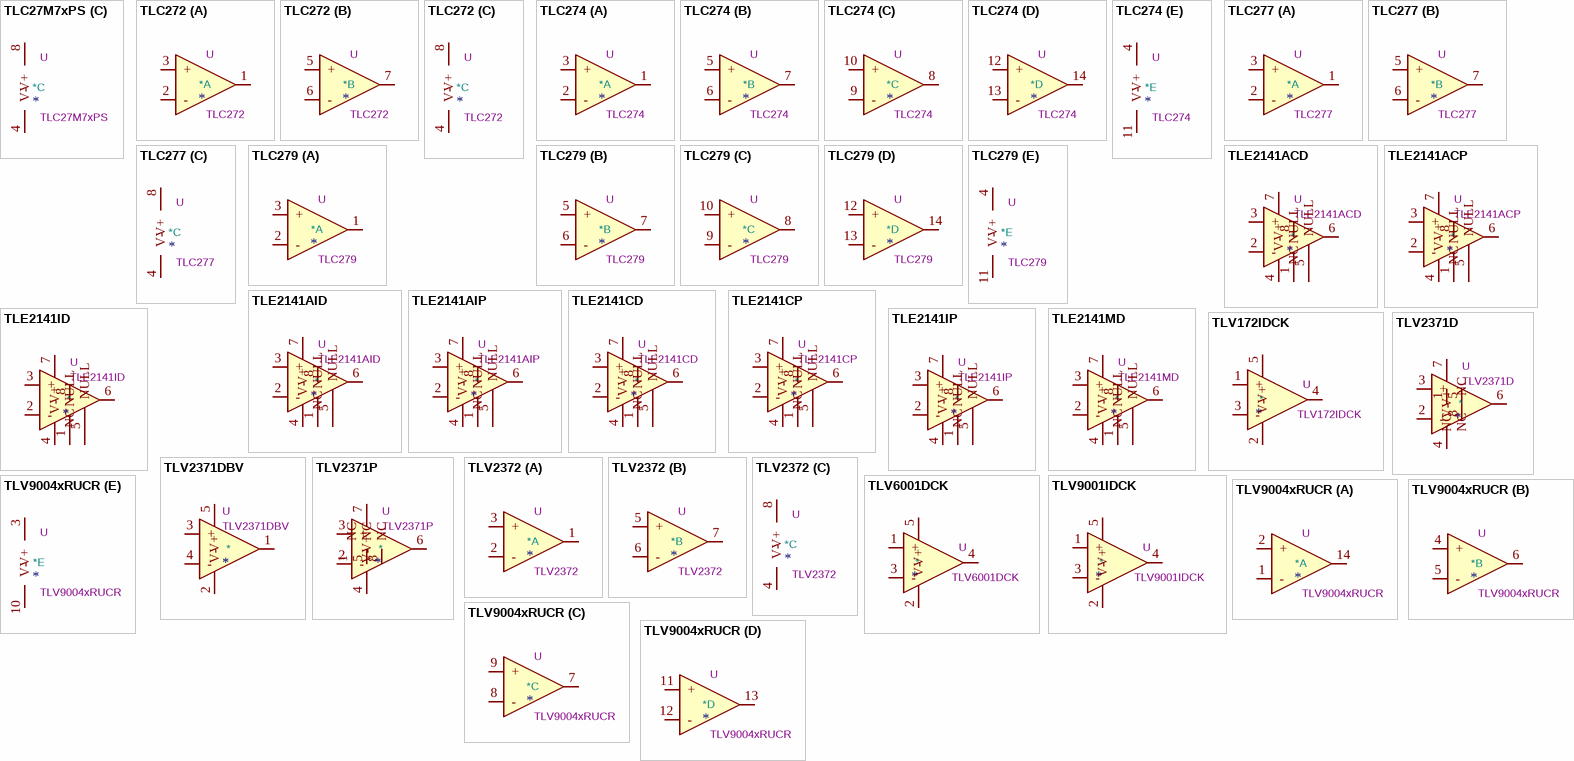
[diagram p20: symbols TLC27M7xPS to TLV9004xRUCR]

## TLC27M7xPS
designator *  value TLC27M7xPS  Reference: U
LinCMOS Precision Dual Operational Amplifiers, VIO_max = 500μV (at 25°C), VDD = 3..16V (C suffix) / VDD = 4..16V (I / M suffix), 525kHz unity-gain bandwidth (VDD = 5V, TA = 25°C), SOIC-8 (208 mil); ki_keywords: opamp operational-amplifier; ki_fp_filters: *SOIC*5.3x6.2mm*P1.27mm*; Footprint: Package_SO:SOIC-8_5.3x6.2mm_P1.27mm; Datasheet: https://www.ti.com/lit/ds/symlink/tlc27m2.pdf; Description_: LinCMOS Precision Dual Operational Amplifiers, VIO_max = 500μV (at 25°C), VDD = 3..16V (C suffix) / VDD = 4..16V (I / M suffix), 525kHz unity-gain bandwidth (VDD = 5V, TA = 25°C), SOIC-8 (208 mil)
part A pins: 1, 2 -, 3 +
part B pins: 5 +, 6 -, 7
part C pins: 4 V-, 8 V+

## TLC272
designator *  value TLC272  Reference: U
Dual LinCMOS Precision Dual Operational Amplifiers, DIP-8/SOIC-8/SSOP-8; ki_keywords: dual opamp; ki_fp_filters: SOIC*3.9x4.9mm*P1.27mm* DIP*W7.62mm* TO*99* OnSemi*Micro8* TSSOP*3x3mm*P0.65mm* TSSOP*4.4x3mm*P0.65mm* MSOP*3x3mm*P0.65mm* SSOP*3.9x4.9mm*P0.635mm* LFCSP*2x2mm*P0.5mm* *SIP* SOIC*5.3x6.2mm*P1.27mm*; Datasheet: http://www.ti.com/lit/ds/symlink/tlc272.pdf; Description_: Dual LinCMOS Precision Dual Operational Amplifiers, DIP-8/SOIC-8/SSOP-8
part A pins: 1, 2 -, 3 +
part B pins: 5 +, 6 -, 7
part C pins: 4 V-, 8 V+

## TLC274
designator *  value TLC274  Reference: U
Quad LinCMOS Precision Quad Operational Amplifiers, DIP-14/SOIC-14/SSOP-14; ki_keywords: quad opamp; ki_fp_filters: SOIC*3.9x8.7mm*P1.27mm* DIP*W7.62mm* TSSOP*4.4x5mm*P0.65mm* SSOP*5.3x6.2mm*P0.65mm* MSOP*3x3mm*P0.5mm*; Datasheet: http://www.ti.com/lit/ds/symlink/tlc274.pdf; Description_: Quad LinCMOS Precision Quad Operational Amplifiers, DIP-14/SOIC-14/SSOP-14
part A pins: 1, 2 -, 3 +
part B pins: 5 +, 6 -, 7
part C pins: 8, 9 -, 10 +
part D pins: 12 +, 13 -, 14
part E pins: 4 V+, 11 V-

## TLC277
designator *  value TLC277  Reference: U
Dual LinCMOS Precision Dual Operational Amplifiers, DIP-8/SOIC-8/SSOP-8; ki_keywords: dual opamp; ki_fp_filters: SOIC*3.9x4.9mm*P1.27mm* DIP*W7.62mm* TO*99* OnSemi*Micro8* TSSOP*3x3mm*P0.65mm* TSSOP*4.4x3mm*P0.65mm* MSOP*3x3mm*P0.65mm* SSOP*3.9x4.9mm*P0.635mm* LFCSP*2x2mm*P0.5mm* *SIP* SOIC*5.3x6.2mm*P1.27mm*; Datasheet: http://www.ti.com/lit/ds/symlink/tlc272.pdf; Description_: Dual LinCMOS Precision Dual Operational Amplifiers, DIP-8/SOIC-8/SSOP-8
part A pins: 1, 2 -, 3 +
part B pins: 5 +, 6 -, 7
part C pins: 4 V-, 8 V+

## TLC279
designator *  value TLC279  Reference: U
Quad LinCMOS Precision Quad Operational Amplifiers, DIP-14/SOIC-14/SSOP-14; ki_keywords: quad opamp; ki_fp_filters: SOIC*3.9x8.7mm*P1.27mm* DIP*W7.62mm* TSSOP*4.4x5mm*P0.65mm* SSOP*5.3x6.2mm*P0.65mm* MSOP*3x3mm*P0.5mm*; Datasheet: http://www.ti.com/lit/ds/symlink/tlc274.pdf; Description_: Quad LinCMOS Precision Quad Operational Amplifiers, DIP-14/SOIC-14/SSOP-14
part A pins: 1, 2 -, 3 +
part B pins: 5 +, 6 -, 7
part C pins: 8, 9 -, 10 +
part D pins: 12 +, 13 -, 14
part E pins: 4 V+, 11 V-

## TLE2141ACD
designator *  value TLE2141ACD  Reference: U
Operational Amplifier, 500 uV offset voltage, 0-70°C, SOIC-8; ki_keywords: single opamp; ki_fp_filters: SOIC*3.9x4.9mm*P1.27mm*; Footprint: Package_SO:SOIC-8_3.9x4.9mm_P1.27mm; Datasheet: https://www.ti.com/lit/ds/symlink/tle2141a.pdf; Description_: Operational Amplifier, 500 uV offset voltage, 0-70°C, SOIC-8
pins: 1 NULL, 2 -, 3 +, 4 V-, 5 NULL, 6, 7 V+, 8 NC

## TLE2141ACP
designator *  value TLE2141ACP  Reference: U
Operational Amplifier, 500 uV offset voltage, 0-70°C, PDIP-8; ki_keywords: single opamp; ki_fp_filters: DIP*W7.62mm*; Footprint: Package_DIP:DIP-8_W7.62mm; Datasheet: https://www.ti.com/lit/ds/symlink/tle2141a.pdf; Description_: Operational Amplifier, 500 uV offset voltage, 0-70°C, PDIP-8
pins: 1 NULL, 2 -, 3 +, 4 V-, 5 NULL, 6, 7 V+, 8 NC

## TLE2141AID
designator *  value TLE2141AID  Reference: U
Operational Amplifier, 500 uV offset voltage, -40 to 105°C, SOIC-8; ki_keywords: single opamp; ki_fp_filters: SOIC*3.9x4.9mm*P1.27mm*; Footprint: Package_SO:SOIC-8_3.9x4.9mm_P1.27mm; Datasheet: https://www.ti.com/lit/ds/symlink/tle2141a.pdf; Description_: Operational Amplifier, 500 uV offset voltage, -40 to 105°C, SOIC-8
pins: 1 NULL, 2 -, 3 +, 4 V-, 5 NULL, 6, 7 V+, 8 NC

## TLE2141AIP
designator *  value TLE2141AIP  Reference: U
Operational Amplifier, 500 uV offset voltage, -40 to 105°C, PDIP-8; ki_keywords: single opamp; ki_fp_filters: DIP*W7.62mm*; Footprint: Package_DIP:DIP-8_W7.62mm; Datasheet: https://www.ti.com/lit/ds/symlink/tle2141a.pdf; Description_: Operational Amplifier, 500 uV offset voltage, -40 to 105°C, PDIP-8
pins: 1 NULL, 2 -, 3 +, 4 V-, 5 NULL, 6, 7 V+, 8 NC

## TLE2141CD
designator *  value TLE2141CD  Reference: U
Operational Amplifier, 900 uV offset voltage, 0-70°C, SOIC-8; ki_keywords: single opamp; ki_fp_filters: SOIC*3.9x4.9mm*P1.27mm*; Footprint: Package_SO:SOIC-8_3.9x4.9mm_P1.27mm; Datasheet: https://www.ti.com/lit/ds/symlink/tle2141a.pdf; Description_: Operational Amplifier, 900 uV offset voltage, 0-70°C, SOIC-8
pins: 1 NULL, 2 -, 3 +, 4 V-, 5 NULL, 6, 7 V+, 8 NC

## TLE2141CP
designator *  value TLE2141CP  Reference: U
Operational Amplifier, 900 uV offset voltage, 0-70°C, PDIP-8; ki_keywords: single opamp; ki_fp_filters: DIP*W7.62mm*; Footprint: Package_DIP:DIP-8_W7.62mm; Datasheet: https://www.ti.com/lit/ds/symlink/tle2141a.pdf; Description_: Operational Amplifier, 900 uV offset voltage, 0-70°C, PDIP-8
pins: 1 NULL, 2 -, 3 +, 4 V-, 5 NULL, 6, 7 V+, 8 NC

## TLE2141ID
designator *  value TLE2141ID  Reference: U
Operational Amplifier, 900 uV offset voltage, -40 to 105°C, SOIC-8; ki_keywords: single opamp; ki_fp_filters: SOIC*3.9x4.9mm*P1.27mm*; Footprint: Package_SO:SOIC-8_3.9x4.9mm_P1.27mm; Datasheet: https://www.ti.com/lit/ds/symlink/tle2141a.pdf; Description_: Operational Amplifier, 900 uV offset voltage, -40 to 105°C, SOIC-8
pins: 1 NULL, 2 -, 3 +, 4 V-, 5 NULL, 6, 7 V+, 8 NC

## TLE2141IP
designator *  value TLE2141IP  Reference: U
Operational Amplifier, 900 uV offset voltage, -40 to 105°C, PDIP-8; ki_keywords: single opamp; ki_fp_filters: DIP*W7.62mm*; Footprint: Package_DIP:DIP-8_W7.62mm; Datasheet: https://www.ti.com/lit/ds/symlink/tle2141a.pdf; Description_: Operational Amplifier, 900 uV offset voltage, -40 to 105°C, PDIP-8
pins: 1 NULL, 2 -, 3 +, 4 V-, 5 NULL, 6, 7 V+, 8 NC

## TLE2141MD
designator *  value TLE2141MD  Reference: U
Operational Amplifier, 900 uV offset voltage, -55 to 125°C, SOIC-8; ki_keywords: single opamp; ki_fp_filters: SOIC*3.9x4.9mm*P1.27mm*; Footprint: Package_SO:SOIC-8_3.9x4.9mm_P1.27mm; Datasheet: https://www.ti.com/lit/ds/symlink/tle2141a.pdf; Description_: Operational Amplifier, 900 uV offset voltage, -55 to 125°C, SOIC-8
pins: 1 NULL, 2 -, 3 +, 4 V-, 5 NULL, 6, 7 V+, 8 NC

## TLV172IDCK
designator *  value TLV172IDCK  Reference: U
Low-power Operational Amplifier, SOT-353; ki_keywords: op amp operational amplifier; ki_fp_filters: SOT*353*SC*70*; Footprint: Package_TO_SOT_SMD:SOT-353_SC-70-5; Datasheet: http://www.ti.com/lit/ds/symlink/tlv172.pdf; Description_: Low-power Operational Amplifier, SOT-353
pins: 1 +, 2 V-, 3 -, 4, 5 V+

## TLV2371D
designator *  value TLV2371D  Reference: U
Rail-to-Rail Input/Output Operational Amplifier, SOIC-8; ki_keywords: single opamp; ki_fp_filters: SOIC*3.9x4.9mm*P1.27mm*; Footprint: Package_SO:SOIC-8_3.9x4.9mm_P1.27mm; Datasheet: http://www.ti.com/lit/ds/symlink/tlv2375.pdf; Description_: Rail-to-Rail Input/Output Operational Amplifier, SOIC-8
pins: 1 NC, 2 -, 3 +, 4 V-, 5 NC, 6, 7 V+, 8 NC

## TLV2371DBV
designator *  value TLV2371DBV  Reference: U
Rail-to-Rail Input/Output Operational Amplifier, SOT-23-5; ki_keywords: single opamp; ki_fp_filters: SOT?23*; Footprint: Package_TO_SOT_SMD:SOT-23-5; Datasheet: http://www.ti.com/lit/ds/symlink/tlv2375.pdf; Description_: Rail-to-Rail Input/Output Operational Amplifier, SOT-23-5
pins: 1, 2 V-, 3 +, 4 -, 5 V+

## TLV2371P
designator *  value TLV2371P  Reference: U
Rail-to-Rail Input/Output Operational Amplifier, PDIP-8; ki_keywords: single opamp; ki_fp_filters: DIP*W7.62mm*; Footprint: Package_DIP:DIP-8_W7.62mm; Datasheet: http://www.ti.com/lit/ds/symlink/tlv2375.pdf; Description_: Rail-to-Rail Input/Output Operational Amplifier, PDIP-8
pins: 1 NC, 2 -, 3 +, 4 V-, 5 NC, 6, 7 V+, 8 NC

## TLV2372
designator *  value TLV2372  Reference: U
Dual Rail-to-Rail Input/Output Operational Amplifier, DIP-8/SOIC-8/VSSOP-8; ki_keywords: dual opamp; ki_fp_filters: SOIC*3.9x4.9mm*P1.27mm* DIP*W7.62mm* TO*99* OnSemi*Micro8* TSSOP*3x3mm*P0.65mm* TSSOP*4.4x3mm*P0.65mm* MSOP*3x3mm*P0.65mm* SSOP*3.9x4.9mm*P0.635mm* LFCSP*2x2mm*P0.5mm* *SIP* SOIC*5.3x6.2mm*P1.27mm*; Datasheet: http://www.ti.com/lit/ds/symlink/tlv2375.pdf; Description_: Dual Rail-to-Rail Input/Output Operational Amplifier, DIP-8/SOIC-8/VSSOP-8
part A pins: 1, 2 -, 3 +
part B pins: 5 +, 6 -, 7
part C pins: 4 V-, 8 V+

## TLV6001DCK
designator *  value TLV6001DCK  Reference: U
Low-power, Rail-to-rail, 1MHz Operational Amplifier, SOT-353; ki_keywords: op amp operational amplifier; ki_fp_filters: SOT*353*SC*70*; Footprint: Package_TO_SOT_SMD:SOT-353_SC-70-5; Datasheet: http://www.ti.com/lit/ds/symlink/tlv6001.pdf; Description_: Low-power, Rail-to-rail, 1MHz Operational Amplifier, SOT-353
pins: 1 +, 2 V-, 3 -, 4, 5 V+

## TLV9001IDCK
designator *  value TLV9001IDCK  Reference: U
Low-power, Rail-to-Rail, 1MHz Operational Amplifier, SOT-353; ki_keywords: op amp operational amplifier; ki_fp_filters: SOT*353*SC*70*; Footprint: Package_TO_SOT_SMD:SOT-353_SC-70-5; Datasheet: https://www.ti.com/lit/ds/symlink/tlv9001.pdf; Description_: Low-power, Rail-to-Rail, 1MHz Operational Amplifier, SOT-353
pins: 1 +, 2 V-, 3 -, 4, 5 V+

## TLV9004xRUCR
designator *  value TLV9004xRUCR  Reference: U
Low-Power, Quad-Operational Amplifiers, Texas S-PX2QFN-14; ki_keywords: quad opamp; ki_fp_filters: Texas*S*PX2QFN*; Footprint: Package_DFN_QFN:Texas_S-PX2QFN-14; Datasheet: http://www.ti.com/lit/ds/symlink/tlv9004.pdf; Description_: Low-Power, Quad-Operational Amplifiers, Texas S-PX2QFN-14
part A pins: 1 -, 2 +, 14
part B pins: 4 +, 5 -, 6
part C pins: 7, 8 -, 9 +
part D pins: 11 +, 12 -, 13
part E pins: 3 V+, 10 V-

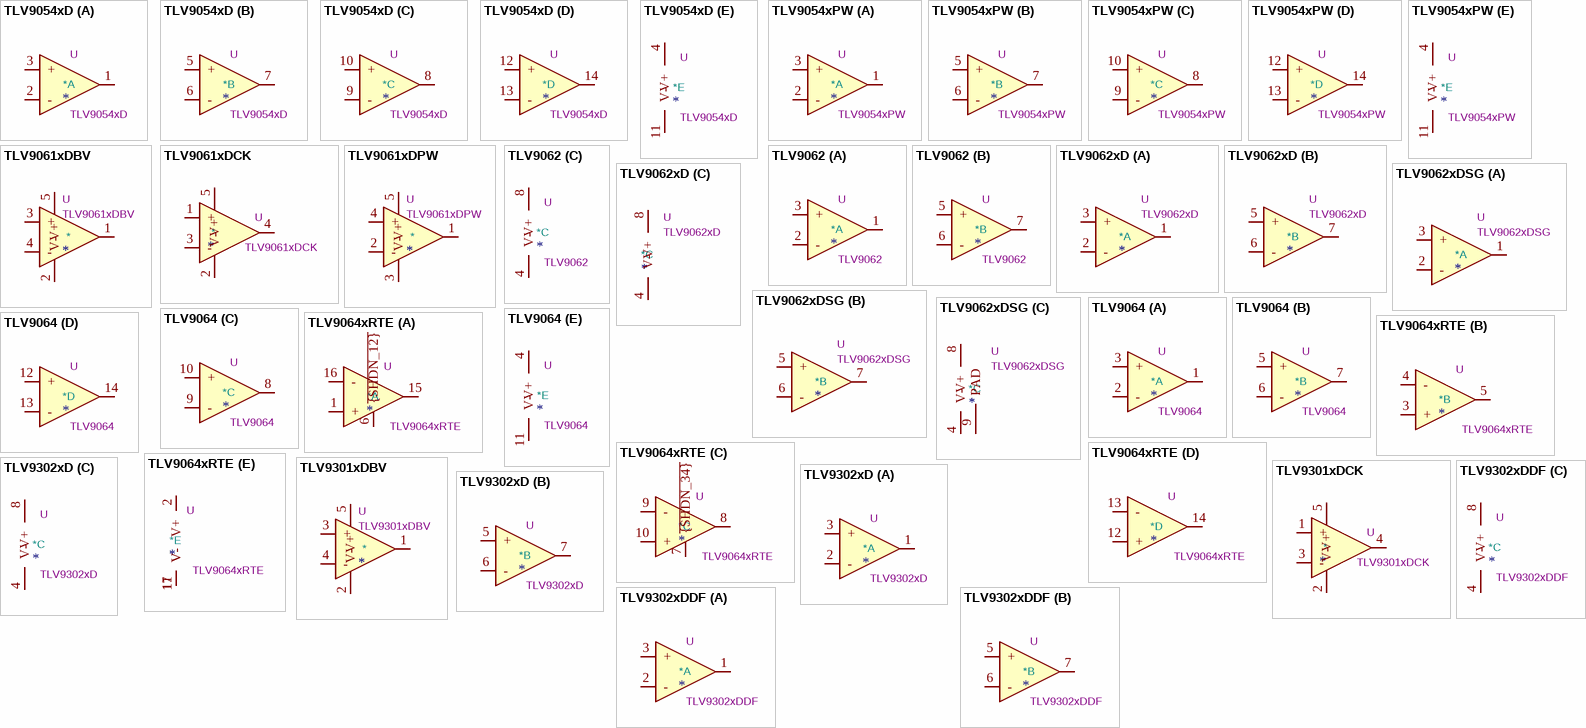
[diagram p21: symbols TLV9054xD to TLV9302xDDF]

## TLV9054xD
designator *  value TLV9054xD  Reference: U
Quad RRIO Operational Amplifiers, 15V/us slew rate, 33uVos, 5MHz GBW, SOIC-14; ki_keywords: texas opamp; ki_fp_filters: SOIC*3.9x8.7mm*P1.27mm*; Footprint: Package_SO:SOIC-14_3.9x8.7mm_P1.27mm; Datasheet: https://www.ti.com/lit/ds/symlink/tlv9054.pdf; Description_: Quad RRIO Operational Amplifiers, 15V/us slew rate, 33uVos, 5MHz GBW, SOIC-14
part A pins: 1, 2 -, 3 +
part B pins: 5 +, 6 -, 7
part C pins: 8, 9 -, 10 +
part D pins: 12 +, 13 -, 14
part E pins: 4 V+, 11 V-

## TLV9054xPW
designator *  value TLV9054xPW  Reference: U
Quad RRIO Operational Amplifiers, 15V/us slew rate, 33uVos, 5MHz GBW, TSSOP-14; ki_keywords: texas opamp; ki_fp_filters: TSSOP*4.4x5mm*P0.65mm*; Footprint: Package_SO:TSSOP-14_4.4x5mm_P0.65mm; Datasheet: https://www.ti.com/lit/ds/symlink/tlv9054.pdf; Description_: Quad RRIO Operational Amplifiers, 15V/us slew rate, 33uVos, 5MHz GBW, TSSOP-14
part A pins: 1, 2 -, 3 +
part B pins: 5 +, 6 -, 7
part C pins: 8, 9 -, 10 +
part D pins: 12 +, 13 -, 14
part E pins: 4 V+, 11 V-

## TLV9061xDBV
designator *  value TLV9061xDBV  Reference: U
10-MHz, RRIO, CMOS Operational Amplifiers for Cost-Sensitive Systems, SOT-23-5; ki_keywords: single opamp rail to rail input output; ki_fp_filters: SOT?23*; Footprint: Package_TO_SOT_SMD:SOT-23-5; Datasheet: https://www.ti.com/lit/ds/symlink/tlv9061.pdf; Description_: 10-MHz, RRIO, CMOS Operational Amplifiers for Cost-Sensitive Systems, SOT-23-5
pins: 1, 2 V-, 3 +, 4 -, 5 V+

## TLV9061xDCK
designator *  value TLV9061xDCK  Reference: U
10-MHz, RRIO, CMOS Operational Amplifiers for Cost-Sensitive Systems, SC-70; ki_keywords: single opamp rail to rail input output; ki_fp_filters: SOT*353*SC*70*; Footprint: Package_TO_SOT_SMD:SOT-353_SC-70-5; Datasheet: https://www.ti.com/lit/ds/symlink/tlv9061.pdf; Description_: 10-MHz, RRIO, CMOS Operational Amplifiers for Cost-Sensitive Systems, SC-70
pins: 1 +, 2 V-, 3 -, 4, 5 V+

## TLV9061xDPW
designator *  value TLV9061xDPW  Reference: U
10-MHz, RRIO, CMOS Operational Amplifiers for Cost-Sensitive Systems, X2SON; ki_keywords: single opamp; ki_fp_filters: Texas?X2SON*0.8x0.8mm*P0.48mm*; Footprint: Package_SON:Texas_X2SON-5_0.8x0.8mm_P0.48mm; Datasheet: https://www.ti.com/lit/ds/symlink/tlv9061.pdf; Description_: 10-MHz, RRIO, CMOS Operational Amplifiers for Cost-Sensitive Systems, X2SON
pins: 1, 2 -, 3 V-, 4 +, 5 V+

## TLV9062
designator *  value TLV9062  Reference: U
Dual Operational Amplifiers, SOIC-8/TSSOP-8/VSSOP-8; ki_keywords: dual opamp; ki_fp_filters: SOIC*3.9x4.9mm*P1.27mm* TSSOP*4.4x3mm*P0.65mm* VSSOP*3x3mm*P0.5mm*; Datasheet: https://www.ti.com/lit/ds/symlink/tlv9062.pdf; Description_: Dual Operational Amplifiers, SOIC-8/TSSOP-8/VSSOP-8
part A pins: 1, 2 -, 3 +
part B pins: 5 +, 6 -, 7
part C pins: 4 V-, 8 V+

## TLV9062xD
designator *  value TLV9062xD  Reference: U
Dual operational amplifier, 300 uV Offset, SOIC-8; ki_keywords: dual op-amp low power; ki_fp_filters: SOIC*3.9x4.9mm*P1.27mm*; Footprint: Package_SO:SOIC-8_3.9x4.9mm_P1.27mm; Datasheet: https://www.ti.com/lit/ds/symlink/tlv9062.pdf; Description_: Dual operational amplifier, 300 uV Offset, SOIC-8
part A pins: 1, 2 -, 3 +
part B pins: 5 +, 6 -, 7
part C pins: 4 V-, 8 V+

## TLV9062xDSG
designator *  value TLV9062xDSG  Reference: U
Dual operational amplifier, 210uV Offset, 0.25uV/C, low-noise, WSON-8; ki_keywords: dual opamp low-power; ki_fp_filters: WSON*1EP?2x2mm*P0.5mm*; Footprint: Package_SON:WSON-8-1EP_2x2mm_P0.5mm_EP0.9x1.6mm_ThermalVias; Datasheet: https://www.ti.com/lit/ds/symlink/tlv9062.pdf; Description_: Dual operational amplifier, 210uV Offset, 0.25uV/C, low-noise, WSON-8
part A pins: 1, 2 -, 3 +
part B pins: 5 +, 6 -, 7
part C pins: 4 V-, 8 V+, 9 PAD

## TLV9064
designator *  value TLV9064  Reference: U
Quad Rail-to-Rail, Operational Amplifiers, 10MHz, SOIC-14/TSSOP-14; ki_keywords: quad opamp; ki_fp_filters: SOIC*3.9x8.7mm*P1.27mm* TSSOP*4.4x5mm*P0.65mm*; Datasheet: https://www.ti.com/lit/ds/symlink/tlv9064.pdf; Description_: Quad Rail-to-Rail, Operational Amplifiers, 10MHz, SOIC-14/TSSOP-14
part A pins: 1, 2 -, 3 +
part B pins: 5 +, 6 -, 7
part C pins: 8, 9 -, 10 +
part D pins: 12 +, 13 -, 14
part E pins: 4 V+, 11 V-

## TLV9064xRTE
designator *  value TLV9064xRTE  Reference: U
Quad 10-MHz RRIO CMOS Operational Amplifier, WQFN-N16; ki_keywords: quad opamp; ki_fp_filters: WQFN*16*EP1.68x1.68mm*; Footprint: Package_DFN_QFN:WQFN-16-1EP_3x3mm_P0.5mm_EP1.68x1.68mm; Datasheet: https://www.ti.com/lit/ds/symlink/tlv9064.pdf; Description_: Quad 10-MHz RRIO CMOS Operational Amplifier, WQFN-N16
part A pins: 1 +, 6 ~{{SHDN_12}}, 15, 16 -
part B pins: 3 +, 4 -, 5
part C pins: 7 ~{{SHDN_34}}, 8, 9 -, 10 +
part D pins: 12 +, 13 -, 14
part E pins: 2 V+, 11 V-, 17 V-

## TLV9301xDBV
designator *  value TLV9301xDBV  Reference: U
40-V, 1-MHz, RRO Operational Amplifiers for Cost-Sensitive Systems, SOT-23-5; ki_keywords: single opamp 40V rail to rail output; ki_fp_filters: SOT?23*; Footprint: Package_TO_SOT_SMD:SOT-23-5; Datasheet: https://www.ti.com/lit/ds/symlink/tlv9301.pdf; Description_: 40-V, 1-MHz, RRO Operational Amplifiers for Cost-Sensitive Systems, SOT-23-5
pins: 1, 2 V-, 3 +, 4 -, 5 V+

## TLV9301xDCK
designator *  value TLV9301xDCK  Reference: U
40-V, 1-MHz, RRO Operational Amplifiers for Cost-Sensitive Systems, SC-70; ki_keywords: op amp operational amplifier 40V rail to rail output; ki_fp_filters: SOT*353*SC*70*; Footprint: Package_TO_SOT_SMD:SOT-353_SC-70-5; Datasheet: https://www.ti.com/lit/ds/symlink/tlv9301.pdf; Description_: 40-V, 1-MHz, RRO Operational Amplifiers for Cost-Sensitive Systems, SC-70
pins: 1 +, 2 V-, 3 -, 4, 5 V+

## TLV9302xD
designator *  value TLV9302xD  Reference: U
40-V, 1-MHz, RRO Operational Amplifiers for Cost-Sensitive Systems, SOIC-8; ki_keywords: dual opamp 40V rail to rail output; ki_fp_filters: SOIC*3.9x4.9mm*P1.27mm*; Footprint: Package_SO:SOIC-8_3.9x4.9mm_P1.27mm; Datasheet: https://www.ti.com/lit/ds/symlink/tlv9302.pdf; Description_: 40-V, 1-MHz, RRO Operational Amplifiers for Cost-Sensitive Systems, SOIC-8
part A pins: 1, 2 -, 3 +
part B pins: 5 +, 6 -, 7
part C pins: 4 V-, 8 V+

## TLV9302xDDF
designator *  value TLV9302xDDF  Reference: U
40-V, 1-MHz, RRO Operational Amplifiers for Cost-Sensitive Systems, SOT-23-8; ki_keywords: dual opamp 40V rail to rail output; ki_fp_filters: SOT?23*; Footprint: Package_TO_SOT_SMD:SOT-23-8; Datasheet: https://www.ti.com/lit/ds/symlink/tlv9302.pdf; Description_: 40-V, 1-MHz, RRO Operational Amplifiers for Cost-Sensitive Systems, SOT-23-8
part A pins: 1, 2 -, 3 +
part B pins: 5 +, 6 -, 7
part C pins: 4 V-, 8 V+

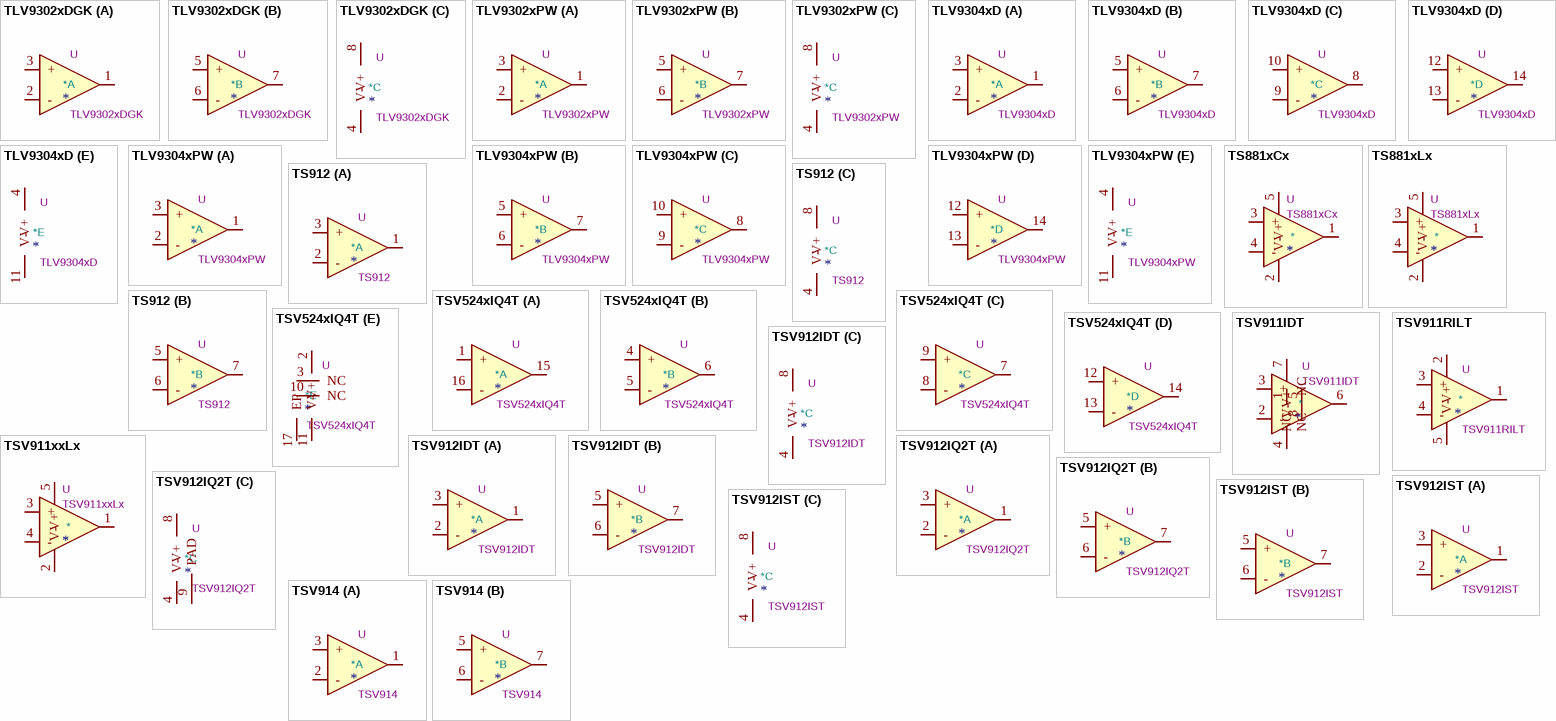
[diagram p22: symbols TLV9302xDGK to TSV914]

## TLV9302xDGK
designator *  value TLV9302xDGK  Reference: U
40-V, 1-MHz, RRO Operational Amplifiers for Cost-Sensitive Systems, VSSOP-8; ki_keywords: dual opamp 40V rail to rail output; ki_fp_filters: MSOP*3x3mm*P0.65mm*; Footprint: Package_SO:MSOP-8_3x3mm_P0.65mm; Datasheet: https://www.ti.com/lit/ds/symlink/tlv9302.pdf; Description_: 40-V, 1-MHz, RRO Operational Amplifiers for Cost-Sensitive Systems, VSSOP-8
part A pins: 1, 2 -, 3 +
part B pins: 5 +, 6 -, 7
part C pins: 4 V-, 8 V+

## TLV9302xPW
designator *  value TLV9302xPW  Reference: U
40-V, 1-MHz, RRO Operational Amplifiers for Cost-Sensitive Systems, TSSOP-8; ki_keywords: dual opamp 40V rail to rail output; ki_fp_filters: TSSOP*4.4x3mm*P0.65mm*; Footprint: Package_SO:TSSOP-8_4.4x3mm_P0.65mm; Datasheet: https://www.ti.com/lit/ds/symlink/tlv9302.pdf; Description_: 40-V, 1-MHz, RRO Operational Amplifiers for Cost-Sensitive Systems, TSSOP-8
part A pins: 1, 2 -, 3 +
part B pins: 5 +, 6 -, 7
part C pins: 4 V-, 8 V+

## TLV9304xD
designator *  value TLV9304xD  Reference: U
40-V, 1-MHz, RRO Operational Amplifiers for Cost-Sensitive Systems, SOIC-14; ki_keywords: quad opamp 40V rail to rail output; ki_fp_filters: SO*3.9x8.65mm*P1.27mm*; Footprint: Package_SO:SO-14_3.9x8.65mm_P1.27mm; Datasheet: https://www.ti.com/lit/ds/symlink/tlv9304.pdf; Description_: 40-V, 1-MHz, RRO Operational Amplifiers for Cost-Sensitive Systems, SOIC-14
part A pins: 1, 2 -, 3 +
part B pins: 5 +, 6 -, 7
part C pins: 8, 9 -, 10 +
part D pins: 12 +, 13 -, 14
part E pins: 4 V+, 11 V-

## TLV9304xPW
designator *  value TLV9304xPW  Reference: U
40-V, 1-MHz, RRO Operational Amplifiers for Cost-Sensitive Systems, TSSOP-14; ki_keywords: quad opamp 40V rail to rail output; ki_fp_filters: TSSOP*4.4x5mm*P0.65mm*; Footprint: Package_SO:TSSOP-14_4.4x5mm_P0.65mm; Datasheet: https://www.ti.com/lit/ds/symlink/tlv9304.pdf; Description_: 40-V, 1-MHz, RRO Operational Amplifiers for Cost-Sensitive Systems, TSSOP-14
part A pins: 1, 2 -, 3 +
part B pins: 5 +, 6 -, 7
part C pins: 8, 9 -, 10 +
part D pins: 12 +, 13 -, 14
part E pins: 4 V+, 11 V-

## TS881xCx
designator *  value TS881xCx  Reference: U
Rail-to-rail 0.9V nanopower comparator, SC-70-5; ki_keywords: single comparator; ki_fp_filters: *SC?70*; Footprint: Package_TO_SOT_SMD:SOT-353_SC-70-5; Datasheet: http://www.st.com/content/ccc/resource/technical/document/datasheet/a2/60/3e/5d/b2/c1/4a/e9/DM00057901.pdf/files/DM00057901.pdf/jcr:content/translations/en.DM00057901.pdf; Description_: Rail-to-rail 0.9V nanopower comparator, SC-70-5
pins: 1, 2 V-, 3 +, 4 -, 5 V+

## TS881xLx
designator *  value TS881xLx  Reference: U
Rail-to-rail 0.9V nanopower comparator, SOT-23-5; ki_keywords: single comparator; ki_fp_filters: SOT?23*; Footprint: Package_TO_SOT_SMD:SOT-23-5; Datasheet: www.st.com/resource/en/datasheet/ts881.pdf; Description_: Rail-to-rail 0.9V nanopower comparator, SOT-23-5
pins: 1, 2 V-, 3 +, 4 -, 5 V+